# Altium footprint library Package_DIP.PcbLib: 281 footprints (part 11 of 18)
Each footprint in its own frame and in the unit in brackets; x right, y up, seen from the top. Pads: shape width x height; smd on the part's side, far side on the other; paste and mask are expansions set on the pad; w line width, h text height; cw(c..) or ccw(c..) is an arc to the next point about the centre after c.
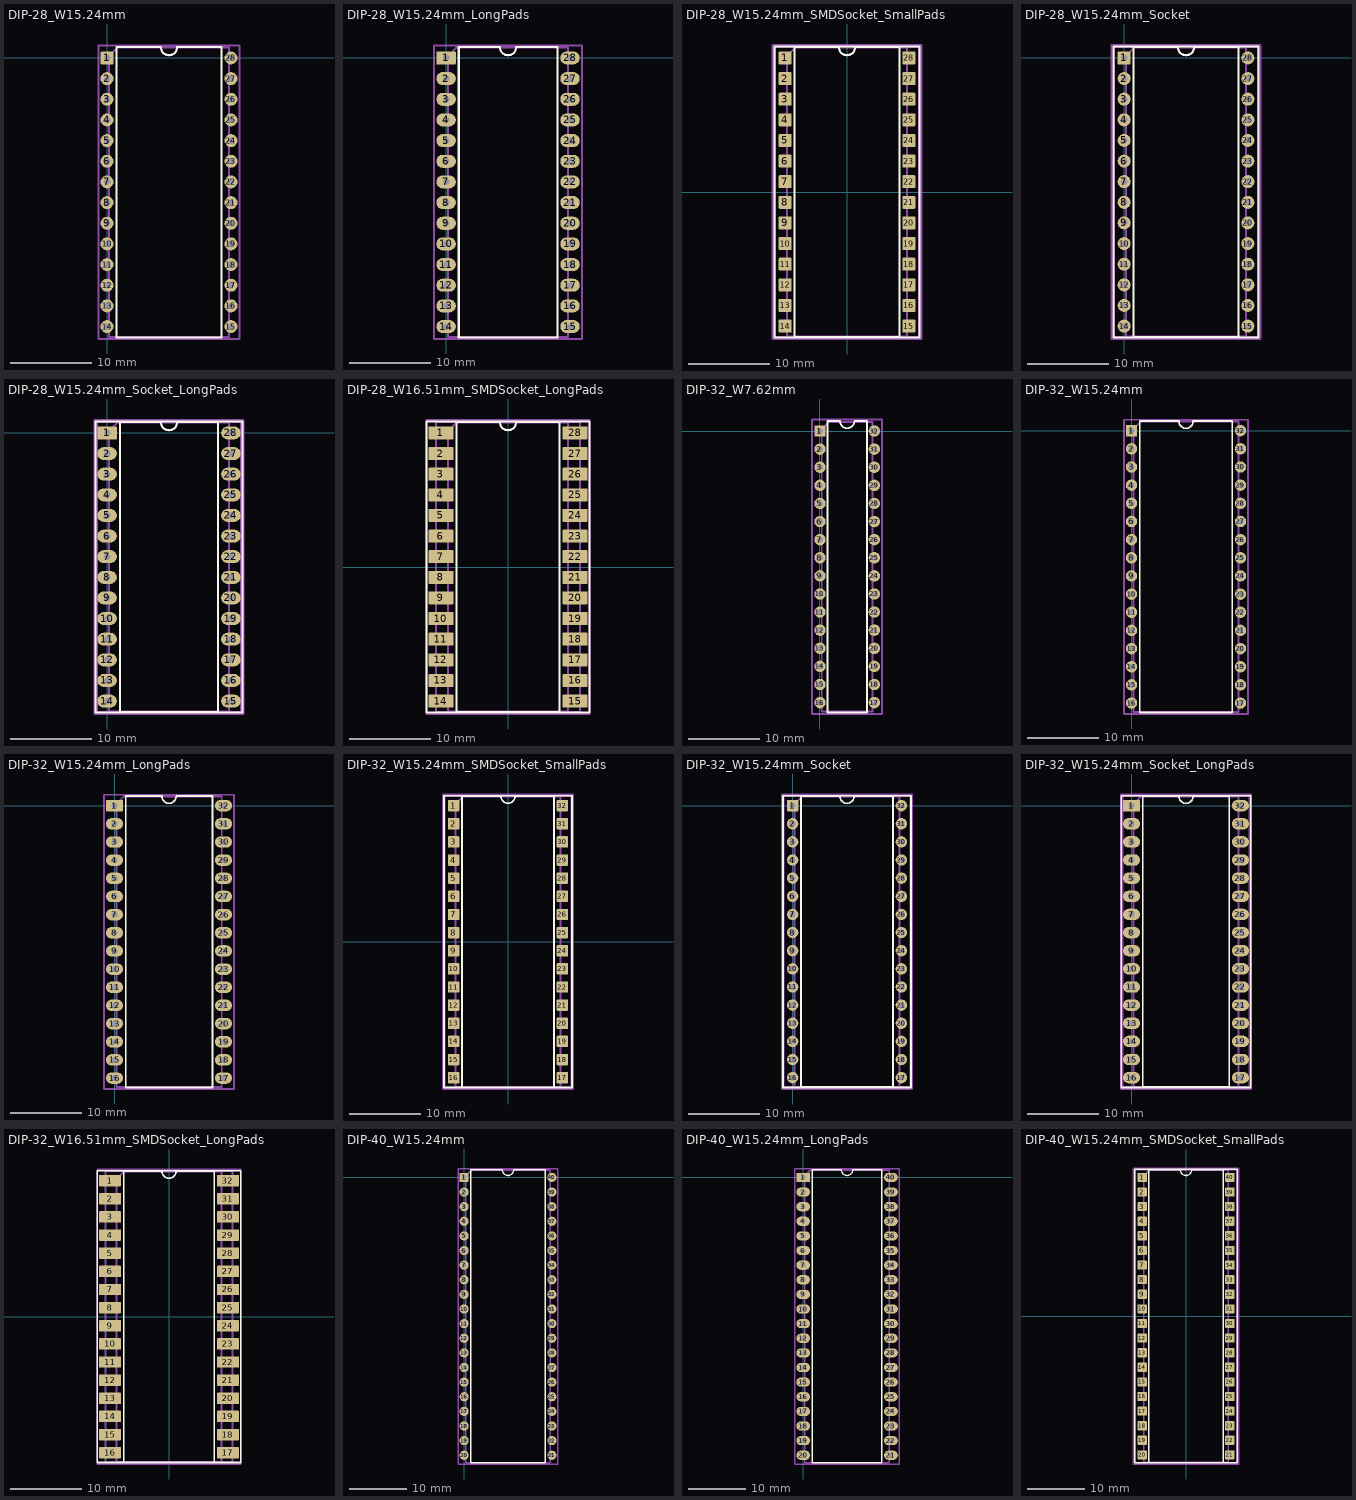
[diagram p10: the footprints below, top view; thin cyan lines are the x and y axes]

## DIP-28_W15.24mm [mm]
pads (28):
  rrect16% 1.6x1.6 hole 0.8: 1(0,0)
  round 1.6 hole 0.8: 2(0,-2.54) 3(0,-5.08) 4(0,-7.62) 5(0,-10.16) 6(0,-12.7) 7(0,-15.24) 8(0,-17.78) 9(0,-20.32) 10(0,-22.86) 11(0,-25.4) 12(0,-27.94) 13(0,-30.48) 14(0,-33.02) 15(15.24,-33.02) 16(15.24,-30.48) 17(15.24,-27.94) 18(15.24,-25.4) 19(15.24,-22.86) 20(15.24,-20.32) 21(15.24,-17.78) 22(15.24,-15.24) 23(15.24,-12.7) 24(15.24,-10.16) 25(15.24,-7.62) 26(15.24,-5.08) 27(15.24,-2.54) 28(15.24,0)
F.SilkS:
  lines w0.254: 1.16,-34.35 14.08,-34.35 14.08,1.33 8.62,1.33 cw(c7.62,1.33) 6.62,1.33 1.16,1.33 1.16,-34.35
Top Assembly:
  lines w0.254: 0.255,-34.29 14.985,-34.29 14.985,1.27 1.255,1.27 0.255,0.27 0.255,-34.29
  text "'.Designator'" at 8.46,-20.557 h1
Top Courtyard:
  lines w0.254: -1.05,-34.55 16.29,-34.55 16.29,1.53 -1.05,1.53 -1.05,-34.55
Top Designator:
  text ".Designator" at 0.002,-17.018 h1.52

## DIP-28_W15.24mm_LongPads [mm]
pads (28):
  rrect16% 2.4x1.6 hole 0.8: 1(0,0)
  rrect100% 2.4x1.6 hole 0.8: 2(0,-2.54) 3(0,-5.08) 4(0,-7.62) 5(0,-10.16) 6(0,-12.7) 7(0,-15.24) 8(0,-17.78) 9(0,-20.32) 10(0,-22.86) 11(0,-25.4) 12(0,-27.94) 13(0,-30.48) 14(0,-33.02) 15(15.24,-33.02) 16(15.24,-30.48) 17(15.24,-27.94) 18(15.24,-25.4) 19(15.24,-22.86) 20(15.24,-20.32) 21(15.24,-17.78) 22(15.24,-15.24) 23(15.24,-12.7) 24(15.24,-10.16) 25(15.24,-7.62) 26(15.24,-5.08) 27(15.24,-2.54) 28(15.24,0)
F.SilkS:
  lines w0.254: 1.56,-34.35 13.68,-34.35 13.68,1.33 8.62,1.33 cw(c7.62,1.33) 6.62,1.33 1.56,1.33 1.56,-34.35
Top Assembly:
  lines w0.254: 0.255,-34.29 14.985,-34.29 14.985,1.27 1.255,1.27 0.255,0.27 0.255,-34.29
  text "'.Designator'" at 8.46,-20.557 h1
Top Courtyard:
  lines w0.254: -1.46,-34.55 16.69,-34.55 16.69,1.53 -1.46,1.53 -1.46,-34.55
Top Designator:
  text ".Designator" at -0.003,-17.018 h1.52

## DIP-28_W15.24mm_SMDSocket_SmallPads [mm]
pads (28):
  rrect16% 1.6x1.6 smd: 1(-7.62,16.51) 2(-7.62,13.97) 3(-7.62,11.43) 4(-7.62,8.89) 5(-7.62,6.35) 6(-7.62,3.81) 7(-7.62,1.27) 8(-7.62,-1.27) 9(-7.62,-3.81) 10(-7.62,-6.35) 11(-7.62,-8.89) 12(-7.62,-11.43) 13(-7.62,-13.97) 14(-7.62,-16.51) 15(7.62,-16.51) 16(7.62,-13.97) 17(7.62,-11.43) 18(7.62,-8.89) 19(7.62,-6.35) 20(7.62,-3.81) 21(7.62,-1.27) 22(7.62,1.27) 23(7.62,3.81) 24(7.62,6.35) 25(7.62,8.89) 26(7.62,11.43) 27(7.62,13.97) 28(7.62,16.51)
F.SilkS:
  lines w0.254: -8.95,-17.9 8.95,-17.9 8.95,17.9 -8.95,17.9 -8.95,-17.9 ; -6.46,-17.84 6.46,-17.84 6.46,17.84 1,17.84 cw(c0,17.84) -1,17.84 -6.46,17.84 -6.46,-17.84
Top Assembly:
  lines w0.254: -8.89,-17.84 8.89,-17.84 8.89,17.84 -8.89,17.84 -8.89,-17.84 ; -7.365,-17.78 7.365,-17.78 7.365,17.78 -6.365,17.78 -7.365,16.78 -7.365,-17.78
  text "'.Designator'" at 0.84,-4.047 h1
Top Courtyard:
  lines w0.254: -9.14,-18.1 9.14,-18.1 9.14,18.1 -9.14,18.1 -9.14,-18.1
Top Designator:
  text ".Designator" at -7.618,-0.508 h1.52

## DIP-28_W15.24mm_Socket [mm]
pads (28):
  rrect16% 1.6x1.6 hole 0.8: 1(0,0)
  round 1.6 hole 0.8: 2(0,-2.54) 3(0,-5.08) 4(0,-7.62) 5(0,-10.16) 6(0,-12.7) 7(0,-15.24) 8(0,-17.78) 9(0,-20.32) 10(0,-22.86) 11(0,-25.4) 12(0,-27.94) 13(0,-30.48) 14(0,-33.02) 15(15.24,-33.02) 16(15.24,-30.48) 17(15.24,-27.94) 18(15.24,-25.4) 19(15.24,-22.86) 20(15.24,-20.32) 21(15.24,-17.78) 22(15.24,-15.24) 23(15.24,-12.7) 24(15.24,-10.16) 25(15.24,-7.62) 26(15.24,-5.08) 27(15.24,-2.54) 28(15.24,0)
F.SilkS:
  lines w0.254: -1.33,-34.41 16.57,-34.41 16.57,1.39 -1.33,1.39 -1.33,-34.41 ; 1.16,-34.35 14.08,-34.35 14.08,1.33 8.62,1.33 cw(c7.62,1.33) 6.62,1.33 1.16,1.33 1.16,-34.35
Top Assembly:
  lines w0.254: -1.27,-34.35 16.51,-34.35 16.51,1.33 -1.27,1.33 -1.27,-34.35 ; 0.255,-34.29 14.985,-34.29 14.985,1.27 1.255,1.27 0.255,0.27 0.255,-34.29
  text "'.Designator'" at 8.46,-20.557 h1
Top Courtyard:
  lines w0.254: -1.53,-34.61 16.77,-34.61 16.77,1.59 -1.53,1.59 -1.53,-34.61
Top Designator:
  text ".Designator" at 0.002,-17.018 h1.52

## DIP-28_W15.24mm_Socket_LongPads [mm]
pads (28):
  rrect16% 2.4x1.6 hole 0.8: 1(0,0)
  rrect100% 2.4x1.6 hole 0.8: 2(0,-2.54) 3(0,-5.08) 4(0,-7.62) 5(0,-10.16) 6(0,-12.7) 7(0,-15.24) 8(0,-17.78) 9(0,-20.32) 10(0,-22.86) 11(0,-25.4) 12(0,-27.94) 13(0,-30.48) 14(0,-33.02) 15(15.24,-33.02) 16(15.24,-30.48) 17(15.24,-27.94) 18(15.24,-25.4) 19(15.24,-22.86) 20(15.24,-20.32) 21(15.24,-17.78) 22(15.24,-15.24) 23(15.24,-12.7) 24(15.24,-10.16) 25(15.24,-7.62) 26(15.24,-5.08) 27(15.24,-2.54) 28(15.24,0)
F.SilkS:
  lines w0.254: -1.44,-34.41 16.68,-34.41 16.68,1.39 -1.44,1.39 -1.44,-34.41 ; 1.56,-34.35 13.68,-34.35 13.68,1.33 8.62,1.33 cw(c7.62,1.33) 6.62,1.33 1.56,1.33 1.56,-34.35
Top Assembly:
  lines w0.254: -1.27,-34.35 16.51,-34.35 16.51,1.33 -1.27,1.33 -1.27,-34.35 ; 0.255,-34.29 14.985,-34.29 14.985,1.27 1.255,1.27 0.255,0.27 0.255,-34.29
  text "'.Designator'" at 8.46,-20.557 h1
Top Courtyard:
  lines w0.254: -1.53,-34.61 16.77,-34.61 16.77,1.59 -1.53,1.59 -1.53,-34.61
Top Designator:
  text ".Designator" at 0.002,-17.018 h1.52

## DIP-28_W16.51mm_SMDSocket_LongPads [mm]
pads (28):
  rrect16% 3.1x1.6 smd: 1(-8.255,16.51) 2(-8.255,13.97) 3(-8.255,11.43) 4(-8.255,8.89) 5(-8.255,6.35) 6(-8.255,3.81) 7(-8.255,1.27) 8(-8.255,-1.27) 9(-8.255,-3.81) 10(-8.255,-6.35) 11(-8.255,-8.89) 12(-8.255,-11.43) 13(-8.255,-13.97) 14(-8.255,-16.51) 15(8.255,-16.51) 16(8.255,-13.97) 17(8.255,-11.43) 18(8.255,-8.89) 19(8.255,-6.35) 20(8.255,-3.81) 21(8.255,-1.27) 22(8.255,1.27) 23(8.255,3.81) 24(8.255,6.35) 25(8.255,8.89) 26(8.255,11.43) 27(8.255,13.97) 28(8.255,16.51)
F.SilkS:
  lines w0.254: -10.045,-17.9 10.045,-17.9 10.045,17.9 -10.045,17.9 -10.045,-17.9 ; -6.345,-17.84 6.345,-17.84 6.345,17.84 1,17.84 cw(c0,17.84) -1,17.84 -6.345,17.84 -6.345,-17.84
Top Assembly:
  lines w0.254: -8.89,-17.84 8.89,-17.84 8.89,17.84 -8.89,17.84 -8.89,-17.84 ; -7.365,-17.78 7.365,-17.78 7.365,17.78 -6.365,17.78 -7.365,16.78 -7.365,-17.78
  text "'.Designator'" at 0.84,-4.047 h1
Top Courtyard:
  lines w0.254: -10.06,-18.1 10.06,-18.1 10.06,18.1 -10.06,18.1 -10.06,-18.1
Top Designator:
  text ".Designator" at -7.618,-0.508 h1.52

## DIP-32_W7.62mm [mm]
pads (32):
  rect 1.6x1.6 hole 0.8: 1(0,0)
  rrect100% 1.6x1.6 hole 0.8: 2(0,-2.54) 3(0,-5.08) 4(0,-7.62) 5(0,-10.16) 6(0,-12.7) 7(0,-15.24) 8(0,-17.78) 9(0,-20.32) 10(0,-22.86) 11(0,-25.4) 12(0,-27.94) 13(0,-30.48) 14(0,-33.02) 15(0,-35.56) 16(0,-38.1) 17(7.62,-38.1) 18(7.62,-35.56) 19(7.62,-33.02) 20(7.62,-30.48) 21(7.62,-27.94) 22(7.62,-25.4) 23(7.62,-22.86) 24(7.62,-20.32) 25(7.62,-17.78) 26(7.62,-15.24) 27(7.62,-12.7) 28(7.62,-10.16) 29(7.62,-7.62) 30(7.62,-5.08) 31(7.62,-2.54) 32(7.62,0)
F.SilkS:
  lines w0.254: 1.04,-39.49 6.58,-39.49 6.58,1.39 4.81,1.39 cw(c3.81,1.39) 2.81,1.39 1.04,1.39 1.04,-39.49
Top Assembly:
  lines w0.254: 0.255,-39.37 7.365,-39.37 7.365,1.27 1.255,1.27 0.255,0.27 0.255,-39.37
  text "'.Designator'" at -0.237,-19.89 h1
Top Courtyard:
  lines w0.254: -1.1,-39.7 8.68,-39.7 8.68,1.6 -1.1,1.6 -1.1,-39.7
Top Designator:
  text ".Designator" at -3.828,-19.558 h1.52

## DIP-32_W15.24mm [mm]
pads (32):
  rrect16% 1.6x1.6 hole 0.8: 1(0,0)
  round 1.6 hole 0.8: 2(0,-2.54) 3(0,-5.08) 4(0,-7.62) 5(0,-10.16) 6(0,-12.7) 7(0,-15.24) 8(0,-17.78) 9(0,-20.32) 10(0,-22.86) 11(0,-25.4) 12(0,-27.94) 13(0,-30.48) 14(0,-33.02) 15(0,-35.56) 16(0,-38.1) 17(15.24,-38.1) 18(15.24,-35.56) 19(15.24,-33.02) 20(15.24,-30.48) 21(15.24,-27.94) 22(15.24,-25.4) 23(15.24,-22.86) 24(15.24,-20.32) 25(15.24,-17.78) 26(15.24,-15.24) 27(15.24,-12.7) 28(15.24,-10.16) 29(15.24,-7.62) 30(15.24,-5.08) 31(15.24,-2.54) 32(15.24,0)
F.SilkS:
  lines w0.254: 1.16,-39.43 14.08,-39.43 14.08,1.33 8.62,1.33 cw(c7.62,1.33) 6.62,1.33 1.16,1.33 1.16,-39.43
Top Assembly:
  lines w0.254: 0.255,-39.37 14.985,-39.37 14.985,1.27 1.255,1.27 0.255,0.27 0.255,-39.37
  text "'.Designator'" at 8.46,-23.097 h1
Top Courtyard:
  lines w0.254: -1.05,-39.63 16.29,-39.63 16.29,1.53 -1.05,1.53 -1.05,-39.63
Top Designator:
  text ".Designator" at 0.002,-19.558 h1.52

## DIP-32_W15.24mm_LongPads [mm]
pads (32):
  rrect16% 2.4x1.6 hole 0.8: 1(0,0)
  rrect100% 2.4x1.6 hole 0.8: 2(0,-2.54) 3(0,-5.08) 4(0,-7.62) 5(0,-10.16) 6(0,-12.7) 7(0,-15.24) 8(0,-17.78) 9(0,-20.32) 10(0,-22.86) 11(0,-25.4) 12(0,-27.94) 13(0,-30.48) 14(0,-33.02) 15(0,-35.56) 16(0,-38.1) 17(15.24,-38.1) 18(15.24,-35.56) 19(15.24,-33.02) 20(15.24,-30.48) 21(15.24,-27.94) 22(15.24,-25.4) 23(15.24,-22.86) 24(15.24,-20.32) 25(15.24,-17.78) 26(15.24,-15.24) 27(15.24,-12.7) 28(15.24,-10.16) 29(15.24,-7.62) 30(15.24,-5.08) 31(15.24,-2.54) 32(15.24,0)
F.SilkS:
  lines w0.254: 1.56,-39.43 13.68,-39.43 13.68,1.33 8.62,1.33 cw(c7.62,1.33) 6.62,1.33 1.56,1.33 1.56,-39.43
Top Assembly:
  lines w0.254: 0.255,-39.37 14.985,-39.37 14.985,1.27 1.255,1.27 0.255,0.27 0.255,-39.37
  text "'.Designator'" at 8.46,-23.097 h1
Top Courtyard:
  lines w0.254: -1.46,-39.63 16.69,-39.63 16.69,1.53 -1.46,1.53 -1.46,-39.63
Top Designator:
  text ".Designator" at -0.003,-19.558 h1.52

## DIP-32_W15.24mm_SMDSocket_SmallPads [mm]
pads (32):
  rrect16% 1.6x1.6 smd: 1(-7.62,19.05) 2(-7.62,16.51) 3(-7.62,13.97) 4(-7.62,11.43) 5(-7.62,8.89) 6(-7.62,6.35) 7(-7.62,3.81) 8(-7.62,1.27) 9(-7.62,-1.27) 10(-7.62,-3.81) 11(-7.62,-6.35) 12(-7.62,-8.89) 13(-7.62,-11.43) 14(-7.62,-13.97) 15(-7.62,-16.51) 16(-7.62,-19.05) 17(7.62,-19.05) 18(7.62,-16.51) 19(7.62,-13.97) 20(7.62,-11.43) 21(7.62,-8.89) 22(7.62,-6.35) 23(7.62,-3.81) 24(7.62,-1.27) 25(7.62,1.27) 26(7.62,3.81) 27(7.62,6.35) 28(7.62,8.89) 29(7.62,11.43) 30(7.62,13.97) 31(7.62,16.51) 32(7.62,19.05)
F.SilkS:
  lines w0.254: -8.95,-20.44 8.95,-20.44 8.95,20.44 -8.95,20.44 -8.95,-20.44 ; -6.46,-20.38 6.46,-20.38 6.46,20.38 1,20.38 cw(c0,20.38) -1,20.38 -6.46,20.38 -6.46,-20.38
Top Assembly:
  lines w0.254: -8.89,-20.38 8.89,-20.38 8.89,20.38 -8.89,20.38 -8.89,-20.38 ; -7.365,-20.32 7.365,-20.32 7.365,20.32 -6.365,20.32 -7.365,19.32 -7.365,-20.32
  text "'.Designator'" at 0.84,-4.047 h1
Top Courtyard:
  lines w0.254: -9.14,-20.63 9.14,-20.63 9.14,20.63 -9.14,20.63 -9.14,-20.63
Top Designator:
  text ".Designator" at -7.618,-0.508 h1.52

## DIP-32_W15.24mm_Socket [mm]
pads (32):
  rrect16% 1.6x1.6 hole 0.8: 1(0,0)
  round 1.6 hole 0.8: 2(0,-2.54) 3(0,-5.08) 4(0,-7.62) 5(0,-10.16) 6(0,-12.7) 7(0,-15.24) 8(0,-17.78) 9(0,-20.32) 10(0,-22.86) 11(0,-25.4) 12(0,-27.94) 13(0,-30.48) 14(0,-33.02) 15(0,-35.56) 16(0,-38.1) 17(15.24,-38.1) 18(15.24,-35.56) 19(15.24,-33.02) 20(15.24,-30.48) 21(15.24,-27.94) 22(15.24,-25.4) 23(15.24,-22.86) 24(15.24,-20.32) 25(15.24,-17.78) 26(15.24,-15.24) 27(15.24,-12.7) 28(15.24,-10.16) 29(15.24,-7.62) 30(15.24,-5.08) 31(15.24,-2.54) 32(15.24,0)
F.SilkS:
  lines w0.254: -1.33,-39.49 16.57,-39.49 16.57,1.39 -1.33,1.39 -1.33,-39.49 ; 1.16,-39.43 14.08,-39.43 14.08,1.33 8.62,1.33 cw(c7.62,1.33) 6.62,1.33 1.16,1.33 1.16,-39.43
Top Assembly:
  lines w0.254: -1.27,-39.43 16.51,-39.43 16.51,1.33 -1.27,1.33 -1.27,-39.43 ; 0.255,-39.37 14.985,-39.37 14.985,1.27 1.255,1.27 0.255,0.27 0.255,-39.37
  text "'.Designator'" at 8.46,-23.097 h1
Top Courtyard:
  lines w0.254: -1.53,-39.69 16.77,-39.69 16.77,1.59 -1.53,1.59 -1.53,-39.69
Top Designator:
  text ".Designator" at 0.002,-19.558 h1.52

## DIP-32_W15.24mm_Socket_LongPads [mm]
pads (32):
  rrect16% 2.4x1.6 hole 0.8: 1(0,0)
  rrect100% 2.4x1.6 hole 0.8: 2(0,-2.54) 3(0,-5.08) 4(0,-7.62) 5(0,-10.16) 6(0,-12.7) 7(0,-15.24) 8(0,-17.78) 9(0,-20.32) 10(0,-22.86) 11(0,-25.4) 12(0,-27.94) 13(0,-30.48) 14(0,-33.02) 15(0,-35.56) 16(0,-38.1) 17(15.24,-38.1) 18(15.24,-35.56) 19(15.24,-33.02) 20(15.24,-30.48) 21(15.24,-27.94) 22(15.24,-25.4) 23(15.24,-22.86) 24(15.24,-20.32) 25(15.24,-17.78) 26(15.24,-15.24) 27(15.24,-12.7) 28(15.24,-10.16) 29(15.24,-7.62) 30(15.24,-5.08) 31(15.24,-2.54) 32(15.24,0)
F.SilkS:
  lines w0.254: -1.44,-39.49 16.68,-39.49 16.68,1.39 -1.44,1.39 -1.44,-39.49 ; 1.56,-39.43 13.68,-39.43 13.68,1.33 8.62,1.33 cw(c7.62,1.33) 6.62,1.33 1.56,1.33 1.56,-39.43
Top Assembly:
  lines w0.254: -1.27,-39.43 16.51,-39.43 16.51,1.33 -1.27,1.33 -1.27,-39.43 ; 0.255,-39.37 14.985,-39.37 14.985,1.27 1.255,1.27 0.255,0.27 0.255,-39.37
  text "'.Designator'" at 8.46,-23.097 h1
Top Courtyard:
  lines w0.254: -1.53,-39.69 16.77,-39.69 16.77,1.59 -1.53,1.59 -1.53,-39.69
Top Designator:
  text ".Designator" at 0.002,-19.558 h1.52

## DIP-32_W16.51mm_SMDSocket_LongPads [mm]
pads (32):
  rrect16% 3.1x1.6 smd: 1(-8.255,19.05) 2(-8.255,16.51) 3(-8.255,13.97) 4(-8.255,11.43) 5(-8.255,8.89) 6(-8.255,6.35) 7(-8.255,3.81) 8(-8.255,1.27) 9(-8.255,-1.27) 10(-8.255,-3.81) 11(-8.255,-6.35) 12(-8.255,-8.89) 13(-8.255,-11.43) 14(-8.255,-13.97) 15(-8.255,-16.51) 16(-8.255,-19.05) 17(8.255,-19.05) 18(8.255,-16.51) 19(8.255,-13.97) 20(8.255,-11.43) 21(8.255,-8.89) 22(8.255,-6.35) 23(8.255,-3.81) 24(8.255,-1.27) 25(8.255,1.27) 26(8.255,3.81) 27(8.255,6.35) 28(8.255,8.89) 29(8.255,11.43) 30(8.255,13.97) 31(8.255,16.51) 32(8.255,19.05)
F.SilkS:
  lines w0.254: -10.045,-20.44 10.045,-20.44 10.045,20.44 -10.045,20.44 -10.045,-20.44 ; -6.345,-20.38 6.345,-20.38 6.345,20.38 1,20.38 cw(c0,20.38) -1,20.38 -6.345,20.38 -6.345,-20.38
Top Assembly:
  lines w0.254: -8.89,-20.38 8.89,-20.38 8.89,20.38 -8.89,20.38 -8.89,-20.38 ; -7.365,-20.32 7.365,-20.32 7.365,20.32 -6.365,20.32 -7.365,19.32 -7.365,-20.32
  text "'.Designator'" at 0.84,-4.047 h1
Top Courtyard:
  lines w0.254: -10.06,-20.63 10.06,-20.63 10.06,20.63 -10.06,20.63 -10.06,-20.63
Top Designator:
  text ".Designator" at -7.618,-0.508 h1.52

## DIP-40_W15.24mm [mm]
pads (40):
  rrect16% 1.6x1.6 hole 0.8: 1(0,0)
  round 1.6 hole 0.8: 2(0,-2.54) 3(0,-5.08) 4(0,-7.62) 5(0,-10.16) 6(0,-12.7) 7(0,-15.24) 8(0,-17.78) 9(0,-20.32) 10(0,-22.86) 11(0,-25.4) 12(0,-27.94) 13(0,-30.48) 14(0,-33.02) 15(0,-35.56) 16(0,-38.1) 17(0,-40.64) 18(0,-43.18) 19(0,-45.72) 20(0,-48.26) 21(15.24,-48.26) 22(15.24,-45.72) 23(15.24,-43.18) 24(15.24,-40.64) 25(15.24,-38.1) 26(15.24,-35.56) 27(15.24,-33.02) 28(15.24,-30.48) 29(15.24,-27.94) 30(15.24,-25.4) 31(15.24,-22.86) 32(15.24,-20.32) 33(15.24,-17.78) 34(15.24,-15.24) 35(15.24,-12.7) 36(15.24,-10.16) 37(15.24,-7.62) 38(15.24,-5.08) 39(15.24,-2.54) 40(15.24,0)
F.SilkS:
  lines w0.254: 1.16,-49.59 14.08,-49.59 14.08,1.33 8.62,1.33 cw(c7.62,1.33) 6.62,1.33 1.16,1.33 1.16,-49.59
Top Assembly:
  lines w0.254: 0.255,-49.53 14.985,-49.53 14.985,1.27 1.255,1.27 0.255,0.27 0.255,-49.53
  text "'.Designator'" at 8.46,-28.177 h1
Top Courtyard:
  lines w0.254: -1.05,-49.78 16.29,-49.78 16.29,1.53 -1.05,1.53 -1.05,-49.78
Top Designator:
  text ".Designator" at 0.002,-24.633 h1.52

## DIP-40_W15.24mm_LongPads [mm]
pads (40):
  rrect16% 2.4x1.6 hole 0.8: 1(0,0)
  rrect100% 2.4x1.6 hole 0.8: 2(0,-2.54) 3(0,-5.08) 4(0,-7.62) 5(0,-10.16) 6(0,-12.7) 7(0,-15.24) 8(0,-17.78) 9(0,-20.32) 10(0,-22.86) 11(0,-25.4) 12(0,-27.94) 13(0,-30.48) 14(0,-33.02) 15(0,-35.56) 16(0,-38.1) 17(0,-40.64) 18(0,-43.18) 19(0,-45.72) 20(0,-48.26) 21(15.24,-48.26) 22(15.24,-45.72) 23(15.24,-43.18) 24(15.24,-40.64) 25(15.24,-38.1) 26(15.24,-35.56) 27(15.24,-33.02) 28(15.24,-30.48) 29(15.24,-27.94) 30(15.24,-25.4) 31(15.24,-22.86) 32(15.24,-20.32) 33(15.24,-17.78) 34(15.24,-15.24) 35(15.24,-12.7) 36(15.24,-10.16) 37(15.24,-7.62) 38(15.24,-5.08) 39(15.24,-2.54) 40(15.24,0)
F.SilkS:
  lines w0.254: 1.56,-49.59 13.68,-49.59 13.68,1.33 8.62,1.33 cw(c7.62,1.33) 6.62,1.33 1.56,1.33 1.56,-49.59
Top Assembly:
  lines w0.254: 0.255,-49.53 14.985,-49.53 14.985,1.27 1.255,1.27 0.255,0.27 0.255,-49.53
  text "'.Designator'" at 8.46,-28.177 h1
Top Courtyard:
  lines w0.254: -1.46,-49.78 16.69,-49.78 16.69,1.53 -1.46,1.53 -1.46,-49.78
Top Designator:
  text ".Designator" at -0.003,-24.633 h1.52

## DIP-40_W15.24mm_SMDSocket_SmallPads [mm]
pads (40):
  rrect16% 1.6x1.6 smd: 1(-7.62,24.13) 2(-7.62,21.59) 3(-7.62,19.05) 4(-7.62,16.51) 5(-7.62,13.97) 6(-7.62,11.43) 7(-7.62,8.89) 8(-7.62,6.35) 9(-7.62,3.81) 10(-7.62,1.27) 11(-7.62,-1.27) 12(-7.62,-3.81) 13(-7.62,-6.35) 14(-7.62,-8.89) 15(-7.62,-11.43) 16(-7.62,-13.97) 17(-7.62,-16.51) 18(-7.62,-19.05) 19(-7.62,-21.59) 20(-7.62,-24.13) 21(7.62,-24.13) 22(7.62,-21.59) 23(7.62,-19.05) 24(7.62,-16.51) 25(7.62,-13.97) 26(7.62,-11.43) 27(7.62,-8.89) 28(7.62,-6.35) 29(7.62,-3.81) 30(7.62,-1.27) 31(7.62,1.27) 32(7.62,3.81) 33(7.62,6.35) 34(7.62,8.89) 35(7.62,11.43) 36(7.62,13.97) 37(7.62,16.51) 38(7.62,19.05) 39(7.62,21.59) 40(7.62,24.13)
F.SilkS:
  lines w0.254: -8.95,-25.52 8.95,-25.52 8.95,25.52 -8.95,25.52 -8.95,-25.52 ; -6.46,-25.46 6.46,-25.46 6.46,25.46 1,25.46 cw(c0,25.46) -1,25.46 -6.46,25.46 -6.46,-25.46
Top Assembly:
  lines w0.254: -8.89,-25.46 8.89,-25.46 8.89,25.46 -8.89,25.46 -8.89,-25.46 ; -7.365,-25.4 7.365,-25.4 7.365,25.4 -6.365,25.4 -7.365,24.4 -7.365,-25.4
  text "'.Designator'" at 0.84,-4.047 h1
Top Courtyard:
  lines w0.254: -9.14,-25.71 9.14,-25.71 9.14,25.71 -9.14,25.71 -9.14,-25.71
Top Designator:
  text ".Designator" at -7.618,-0.508 h1.52